# Altium footprint library DIP12MINUS2.PcbLib: 1 footprints
Each footprint in its own frame and in the unit in brackets; x right, y up, seen from the top. Pads: shape width x height; smd on the part's side, far side on the other; paste and mask are expansions set on the pad; w line width, h text height; cw(c..) or ccw(c..) is an arc to the next point about the centre after c.
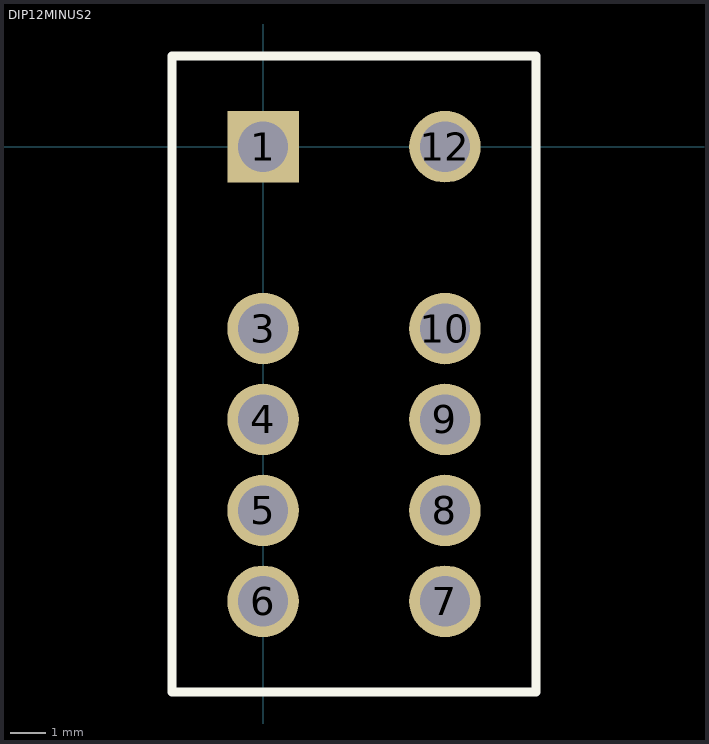
[diagram p0: the footprint, top view; thin cyan lines are the x and y axes]

## DIP12MINUS2 [mm]
pads (10):
  rect 2x2 hole 1.4: 1(0,0)
  round 2 hole 1.4: 3(0,-5.08) 4(0,-7.62) 5(0,-10.16) 6(0,-12.7) 7(5.08,-12.7) 8(5.08,-10.16) 9(5.08,-7.62) 10(5.08,-5.08) 12(5.08,0)
Top Overlay:
  lines w0.254: -2.54,-15.24 -2.54,2.54 7.62,2.54 7.62,-15.24 -2.54,-15.24